# EAGLE library part SI8621AB-B-IS (library silabs)
1 Mbps Digital Isolator 1 Mbps, 2.5 kVRMS Digital Isolator Source: Si86xx.pdf <https://www.silabs.com/documents/public/data-sheets/Si86xx.pdf>
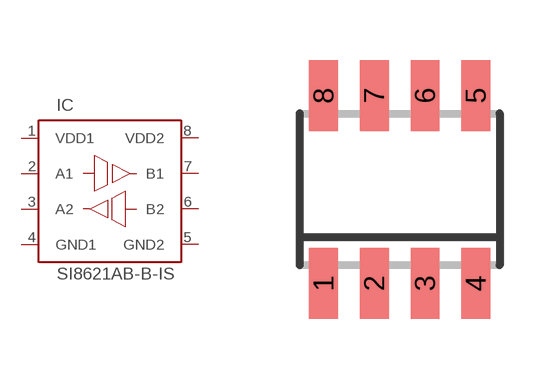
[diagram p0: symbol with the pads of SO08; footprint SO08]

Designator prefix IC

## SI8621AB-B-IS  [SO08]
1  VDD1  pwr
2  A1  in
3  A2  out
4  GND1  pwr
5  GND2  pwr
6  B2  out
7  B1  out
8  VDD2  pwr

## Footprint SO08 (pad centres in mm)
8 Lead SOIC Data Sheet No. PD60212 Rev A Source: www.irf.com .. ir2520.pdf
smd 0.72 x 1.78: 1 -1.905,-2.35; 2 -0.635,-2.35; 3 0.635,-2.35; 4 1.905,-2.35; 5 1.905,2.35; 6 0.635,2.35; 7 -0.635,2.35; 8 -1.905,2.35